# Altium schematic symbol library Schlib1.SchLib: 2 symbols
Pins are listed as number, name and electrical type; pins without a type are passive.

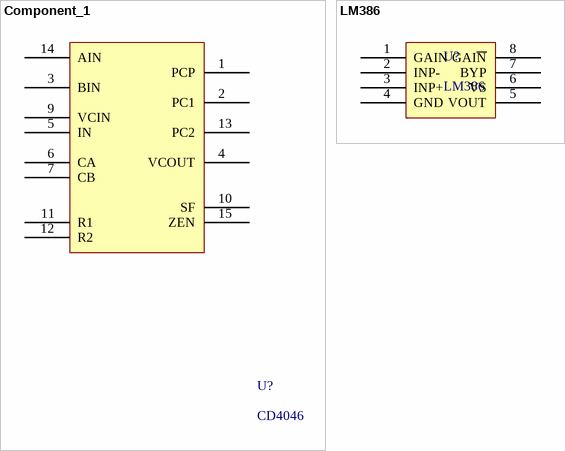
[diagram p0: symbols Component_1 to LM386]

## Component_1
designator U?, comment CD4046
pins: 1 PCP, 2 PC1, 3 BIN, 4 VCOUT, 5 IN, 6 CA, 7 CB, 9 VCIN, 10 SF, 11 R1, 12 R2, 13 PC2, 14 AIN, 15 ZEN

## LM386
designator U?
pins: 1 GAIN, 2 INP-, 3 INP+, 4 GND, 5 VOUT, 6 VS, 7 BYP, 8 GAI~{N}